# Altium footprint library MyLib.PcbLib: 92 footprints (part 3 of 6)
Each footprint in its own frame and in the unit in brackets; x right, y up, seen from the top. Pads: shape width x height; smd on the part's side, far side on the other; paste and mask are expansions set on the pad; w line width, h text height; cw(c..) or ccw(c..) is an arc to the next point about the centre after c.
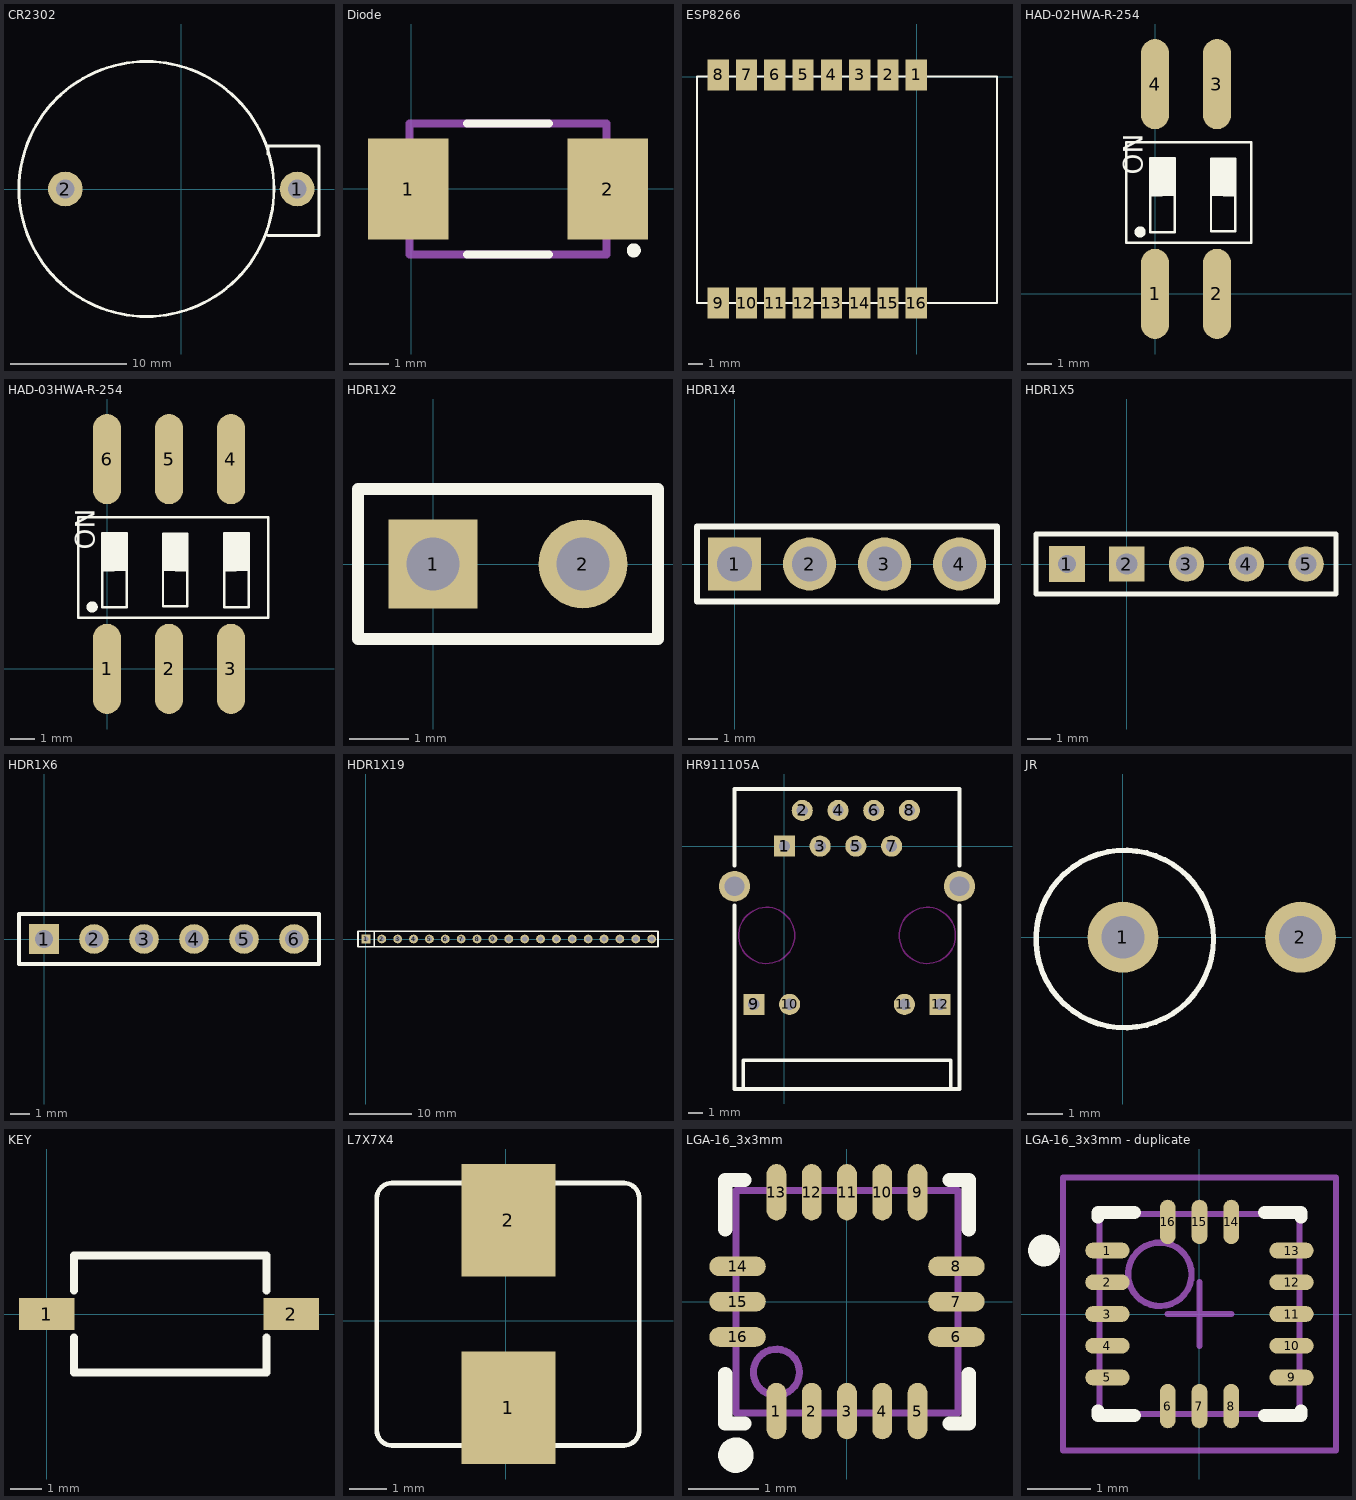
[diagram p2: the footprints below, top view; thin cyan lines are the x and y axes]

## CR2302 [mm]
pads (2):
  round 3 hole 1.6: 1(10,0) 2(-10,0)
Top Overlay:
  circle w0.254: c-3,0 r11
  lines w0.254: 7.5,-4 11.887,-4 11.887,3.708 7.5,3.708 7.5,3

## Diode [mil]
pads (2):
  rect 80x100 smd: 1(-3.15,0) 2(194.96,0)
Top Overlay:
  circle w7: c220.91,-61 r3.5
  lines w7.87: 55.36,-64.96 136.46,-64.96 ; 55.36,64.96 136.46,64.96
Mechanical 7:
  lines w7.87: -2.12,-64.96 -2.12,64.96 193.94,64.96 193.94,-64.96 -2.12,-64.96
Mechanical 9:
  lines w1: -2.12,-64.96 -2.12,64.96 193.94,64.96 193.94,-64.96 -2.12,-64.96
3D body: height 86.61, standoff 0, extent 4.91,-56 172.91,56
3D body: height 43.31, standoff 0, extent 186.91,-33 198.91,33
3D body: height 43.31, standoff 0, extent -7.09,-33 4.91,33
3D body: height 86.61, standoff 0, extent 172.91,-56 186.91,56

## ESP8266 [mm]
pads (16):
  rect 1.5x2.2 smd: 1(-0.045,0.117) 2(-2.045,0.117) 3(-4.045,0.117) 4(-6.045,0.117) 5(-8.045,0.117) 6(-10.045,0.117) 7(-12.045,0.117) 8(-14.045,0.117) 9(-14.045,-16.002) 10(-12.045,-16.002) 11(-10.045,-16.002) 12(-8.045,-16.002) 13(-6.045,-16.002) 14(-4.045,-16.002) 15(-2.045,-16.002) 16(-0.045,-16.002)
Top Overlay:
  lines w0.127: -15.545,-0.002 5.655,-0.002 5.655,-16.002 -15.545,-16.002 -15.545,0

## HAD-02HWA-R-254 [mm] "2位拨动开关"
height 2
pads (4):
  oval 1.15x3.7 smd: 1(0,0) 2(2.54,0) 3(2.54,8.6) 4(0,8.6)
Top Overlay:
  circle w0.254: c-0.613,2.54 r0.105
  rectangle: 2.294,4.066 3.294,5.566
  rectangle: -0.195,4.074 0.805,5.566
  lines w0.1: -0.195,4.056 -0.195,2.533 0.805,2.533 0.805,4.064 0.305,4.064 0.274,4.034 -0.195,4.034 -0.195,5.564 0.805,5.564 0.805,4.072 ; 2.294,4.056 2.294,2.564 3.294,2.564 3.294,4.034 2.824,4.034 2.794,4.064 2.294,4.064 2.294,5.533 3.294,5.533 3.294,4.072 ; -1.176,2.095 3.937,2.095 3.937,6.225 -1.176,6.225 -1.176,3.556 -1.176,2.095
  text "ON" at -0.508,4.889 h0.8

## HAD-03HWA-R-254 [mm] "3位拨动开关"
height 2
pads (6):
  oval 1.15x3.7 smd: 1(0,0) 2(2.54,0) 3(5.08,0) 4(5.08,8.6) 5(2.54,8.6) 6(0,8.6)
Top Overlay:
  circle w0.254: c-0.613,2.54 r0.105
  rectangle: 4.809,4.064 5.809,4.14
  rectangle: 4.809,4.14 5.809,5.564
  rectangle: 2.294,4.064 3.294,5.564
  rectangle: -0.195,4.072 0.805,5.564
  lines w0.1: -0.195,4.056 -0.195,2.534 0.805,2.534 0.805,4.064 0.305,4.064 0.274,4.033 -0.195,4.033 -0.195,5.564 0.805,5.564 0.805,4.072 ; 2.294,4.056 2.294,2.564 3.294,2.564 3.294,4.033 2.825,4.033 2.794,4.064 2.294,4.064 2.294,5.533 3.294,5.533 3.294,4.072 ; 4.809,4.056 4.809,2.534 5.809,2.534 5.809,4.064 5.309,4.064 5.278,4.033 4.809,4.033 4.809,5.564 5.809,5.564 5.809,4.072 ; -1.176,2.095 6.604,2.095 6.604,6.225 -1.176,6.225 -1.176,3.556 -1.176,2.095
  text "ON" at -0.508,4.889 h0.8

## HDR1X2 [mm] "Connector; Header; 2 Position"
height 5.08
pads (2):
  rect 1.5x1.5 hole 0.9: 1(0,0)
  round 1.5 hole 0.9: 2(2.54,0)
Top Overlay:
  lines w0.2: -1.27,-1.27 -1.27,1.27 3.81,1.27 3.81,-1.27 -1.27,-1.27

## HDR1X4 [mm]
pads (4):
  rect 1.8x1.8 hole 1.2: 1(0,0)
  round 1.8 hole 1.2: 2(2.54,0) 3(5.08,0) 4(7.62,0)
Top Overlay:
  lines w0.2: -1.27,-1.27 -1.27,1.27 8.89,1.27 8.89,-1.27 -1.27,-1.27

## HDR1X5 [mm] "Connector; Header; 4 Position"
height 1.3
pads (5):
  rect 1.524x1.524 hole 0.762: 1(-2.54,0)
  rect 1.5x1.5 hole 0.9: 2(0,0)
  round 1.5 hole 0.9: 3(2.54,0) 4(5.08,0) 5(7.62,0)
Top Overlay:
  lines w0.2: -3.85,-1.27 -3.85,1.27 8.89,1.27 8.89,-1.27 -3.85,-1.27

## HDR1X6 [mm] "Connector; Header; 6 Position"
pads (6):
  rect 1.5x1.5 hole 0.9: 1(0,0)
  round 1.5 hole 0.9: 2(2.54,0) 3(5.08,0) 4(7.62,0) 5(10.16,0) 6(12.7,0)
Top Overlay:
  lines w0.2: -1.27,-1.27 13.97,-1.27 13.97,1.27 -1.27,1.27 -1.27,-1.27

## HDR1X19 [mm]
pads (19):
  rect 1.4x1.4 hole 0.85: 1(0,0)
  round 1.4 hole 0.85: 2(2.54,0) 3(5.08,0) 4(7.62,0) 5(10.16,0) 6(12.7,0) 7(15.24,0) 8(17.78,0) 9(20.32,0) 10(22.86,0) 11(25.4,0) 12(27.94,0) 13(30.48,0) 14(33.02,0) 15(35.56,0) 16(38.1,0) 17(40.64,0) 18(43.18,0) 19(45.72,0)
Top Overlay:
  lines w0.254: 1.27,1.27 -1.27,1.27 ; 1.3,-1.27 1.3,1.27 ; -1.27,1.27 -1.27,-1.27 21.844,-1.27 29.21,-1.27 44.323,-1.27 46.736,-1.27 46.736,1.27 44.323,1.27 29.21,1.27 -1.27,1.27

## HR911105A [mm]
pads (14):
  rect 1.5x1.5 hole 0.8: 1(0,0) 9(-2.175,-11.252) 12(11.075,-11.252)
  round 1.5 hole 0.8: 2(1.27,2.54) 3(2.54,0) 4(3.81,2.54) 5(5.08,0) 6(6.35,2.54) 7(7.62,0) 8(8.89,2.54) 10(0.365,-11.252) 11(8.535,-11.252)
  round 2.2 hole 1.4: ""(-3.55,-2.852) ""(12.45,-2.852)
Top Overlay:
  lines w0.254: -3.55,-4.19 -3.55,-17.272 12.45,-17.272 12.45,-4.192 ; -3.55,-1.398 -3.55,4.064 12.45,4.064 12.45,-1.396 ; -2.916,-17.272 -2.916,-15.24 11.816,-15.24 11.816,-17.272
Keep-Out Layer:
  circle w0.1: c-1.265,-6.352 r2
  circle w0.1: c10.165,-6.352 r2

## JR [mm]
pads (2):
  round 2 hole 1.2: 1(0,0) 2(5,0)
Top Overlay:
  circle w0.152: c0.05,-0.051 r2.5

## KEY [mm]
pads (2):
  rect 1.75x1 smd: 1(0,0) 2(7.75,0)
Top Overlay:
  lines w0.254: 0.87,-0.75 0.87,-1.85 6.97,-1.85 6.97,-0.75 ; 0.87,0.75 0.87,1.85 6.97,1.85 6.97,0.75

## L7X7X4 [mm]
pads (2):
  rect 2.5x3 smd: 1(0.072,-2.324) 2(0.072,2.676)
Top Overlay:
  lines w0.127: -3.035,-3.328 cw(c-3.035,-2.922) -3.441,-2.922 -3.441,3.263 cw(c-3.035,3.263) -3.035,3.67 ; -3.035,-3.327 3.151,-3.327 ; -3.031,3.673 3.147,3.673 ; 3.15,-3.328 ccw(c3.15,-2.922) 3.557,-2.922 ; 3.15,3.67 cw(c3.15,3.263) 3.557,3.263 ; 3.559,-2.919 3.559,3.261
3D body: height 4, standoff 0, extent -3.465,-3.359 3.583,3.652
3D body: height 1, standoff 0, extent -1.198,-3.835 1.329,-3.359
3D body: height 1, standoff 0, extent -1.192,3.702 1.335,4.179

## LGA-16_3x3mm [mm]
height 6.86
pads (16):
  oval 0.28x0.8 smd mask+0.051: 1(-1,-1.55) 2(-0.5,-1.55) 3(0,-1.55) 4(0.5,-1.55) 5(1,-1.55) 9(1,1.55) 10(0.5,1.55) 11(0,1.55) 12(-0.5,1.55) 13(-1,1.55)
  oval 0.8x0.28 smd mask+0.051: 6(1.55,-0.5) 7(1.55,0) 8(1.55,0.5) 14(-1.55,0.5) 15(-1.55,0) 16(-1.55,-0.5)
Top Overlay:
  circle w0.25: c-1.575,-2.175 r0.125
  lines w0.2: -1.725,-1.025 -1.725,-1.725 -1.45,-1.725 ; -1.725,1.025 -1.725,1.725 -1.45,1.725 ; 1.45,-1.725 1.725,-1.725 1.725,-1.025 ; 1.45,1.725 1.725,1.725 1.725,1.025
Mechanical 13:
  circle w0.1: c-1,-1 r0.326
  lines w0.1: -1.575,-1.575 -1.575,1.575 1.575,1.575 1.575,-1.575 -1.575,-1.575

## LGA-16_3x3mm - duplicate [mm] "QFN, 16-Leads, Body 3.2x3.2mm (max), Pitch 0.50mm, IPC Medium Density"
height 0.8
pads (16):
  oval 0.7x0.25 smd: 1(-1.45,1) 2(-1.45,0.5) 3(-1.45,0) 4(-1.45,-0.5) 5(-1.45,-1) 9(1.45,-1) 10(1.45,-0.5) 11(1.45,0) 12(1.45,0.5) 13(1.45,1)
  oval 0.25x0.7 smd: 6(-0.5,-1.45) 7(0,-1.45) 8(0.5,-1.45) 14(0.5,1.45) 15(0,1.45) 16(-0.5,1.45)
Top Overlay:
  circle w0.25: c-2.45,1 r0.125
  lines w0.2: -1.6,-1.525 -1.6,-1.6 -1.025,-1.6 ; -1.6,1.525 -1.6,1.6 -1.025,1.6 ; 1.025,-1.6 1.6,-1.6 1.6,-1.525 ; 1.025,1.6 1.6,1.6 1.6,1.525
Mechanical 13:
  circle w0.1: c-0.625,0.625 r0.5
  lines w0.1: -1.575,-1.575 1.575,-1.575 1.575,1.575 -1.575,1.575 -1.575,-1.575
Mechanical 15:
  lines w0.1: -0.5,0 0.5,0 ; 0,-0.5 0,0.5 ; -2.15,-2.15 2.15,-2.15 2.15,2.15 -2.15,2.15 -2.15,-2.15
3D body: height 0.8, standoff 0.01, extent -1.575,-1.575 1.575,1.575